# EAGLE library part THAT2181C (library mb3_integrated circuits)
VCA SIL 2181C: http://www.mouser.com/ProductDetail/THAT/2181CL08-U/?qs=sGAEpiMZZMuyaNrx2BHM4qAopO471wv1KVfvKK7wA1Y%3d Surface Mount 2181C: http://www.mouser.com/ProductDetail/THAT/2181CS08-U/?qs=sGAEpiMZZMuyaNrx2BHM4o7aQg7Ig6csx15c1fInWCc%3d
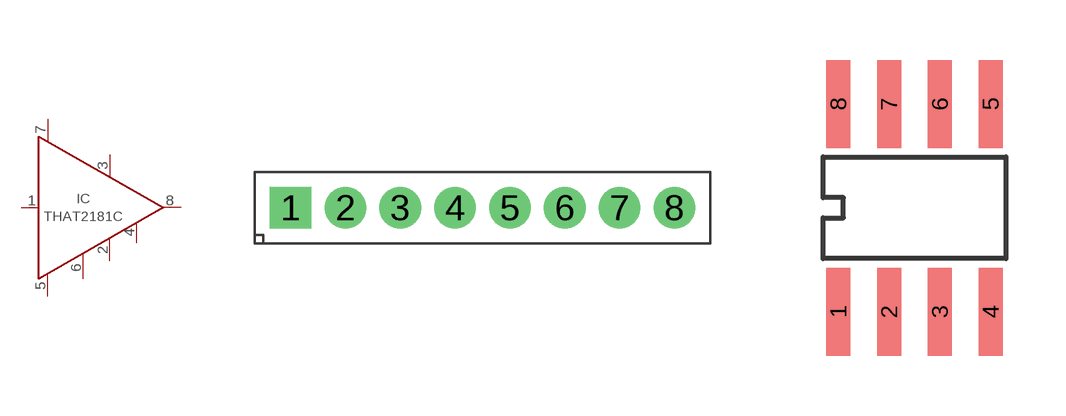
[diagram p26: symbol with the pads of SIL08; footprints SIL08, SO08]

Designator prefix IC

## THAT2181C_TH  [SIL08]
1  P$1
2  P$2
3  P$3
4  P$4
5  P$5
6  P$6
7  P$7
8  P$8

## THAT2181C_SMD  [SO08]
Pads as for SIL08

## Footprint SIL08 (pad centres in mm)
drill 1 pad 1.93 square: 1 0,0
drill 1 pad 1.93: 2 2.54,0; 3 5.08,0; 4 7.62,0; 5 10.16,0; 6 12.7,0; 7 15.24,0; 8 17.78,0

## Footprint SO08 (pad centres in mm)
Small Outline Package 8 NS Package M08A
smd 0.6 x 2.2: 1 -1.905,-2.6; 2 -0.635,-2.6; 3 0.635,-2.6; 4 1.905,-2.6; 5 1.905,2.6; 6 0.635,2.6; 7 -0.635,2.6; 8 -1.905,2.6